# Altium schematic symbol library BM20B(0.6)-20DP-0.4V.SchLib: 1 symbol
Pins are listed as number, name and electrical type; pins without a type are passive.

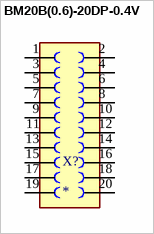
[diagram p0: symbol BM20B(0.6)-20DP-0.4V]

## BM20B(0.6)-20DP-0.4V
designator X?
<b>SMD CONNECTOR</b><p> Source: con-hirose.lbr from Bob Starr &lt;rtzaudio@mindspring.com&gt;; MP: BM20B(0.6)-20DP-0.4V; MF: {'manufacturer': u'Hirose Electric Co Ltd'}; Price: None; Availability: Unavailable; Value: *; Package: None
footprint BM20B(0.6)-20DP-0.4V_2
pins: 1, 2, 3, 4, 5, 6, 7, 8, 9, 10, 11, 12, 13, 14, 15, 16, 17, 18, 19, 20